# Altium footprint library SMA_90_TH.PcbLib: 1 footprints
Each footprint in its own frame and in the unit in brackets; x right, y up, seen from the top. Pads: shape width x height; smd on the part's side, far side on the other; paste and mask are expansions set on the pad; w line width, h text height; cw(c..) or ccw(c..) is an arc to the next point about the centre after c.
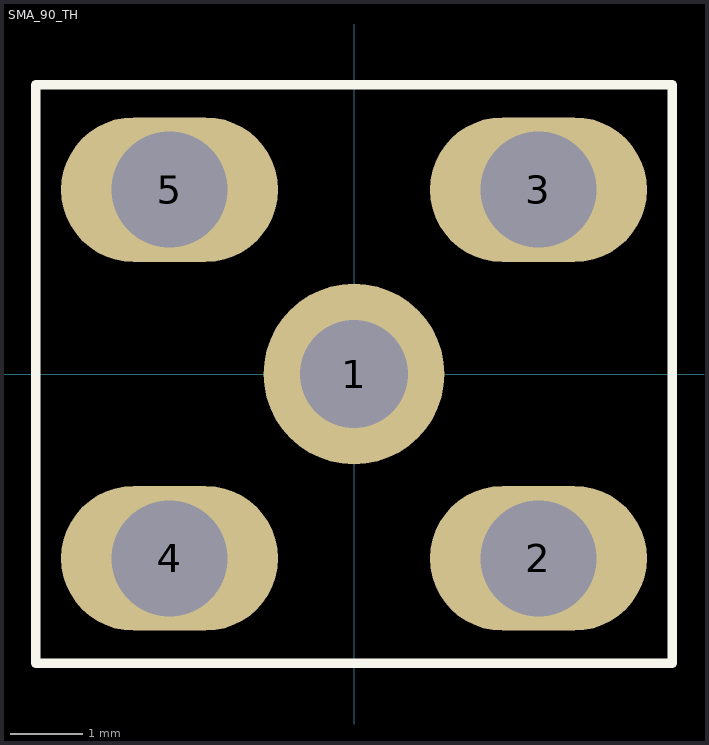
[diagram p0: the footprint, top view; thin cyan lines are the x and y axes]

## SMA_90_TH [mm]
pads (5):
  round 2.5 hole 1.5: 1(0,0)
  oval 3x2 hole 1.6: 2(2.55,-2.55) 3(2.55,2.55) 4(-2.55,-2.55) 5(-2.55,2.55)
Top Overlay:
  lines w0.127: -4.4,-4 -4.4,4 4.4,4 4.4,-4 -4.4,-4
3D body: height 10.26, standoff -3.84, extent -3.505,-3.429 3.495,11.671